# EAGLE library part SC18IM700IPW (library SC18IM700IPW)
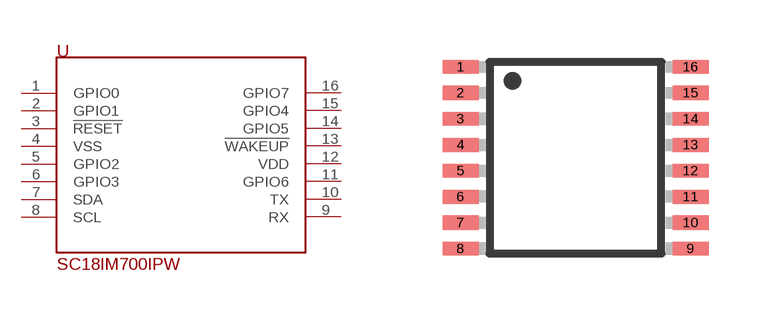
[diagram p0: symbol with the pads of TSSOP16; footprint TSSOP16]

Designator prefix -

## SC18IM700IPWS8HP  [TSSOP16]
1  GPIO0
2  GPIO1
3  !RESET
4  VSS  pwr
5  GPIO2
6  GPIO3
7  SDA
8  SCL
9  RX
10  TX
11  GPIO6
12  VDD  pwr
13  !WAKEUP
14  GPIO5
15  GPIO4
16  GPIO7

## Footprint TSSOP16 (pad centres in mm)
16-Lead Thin Shrink Small Outline Package [TSSOP] (RU-16) Source: 8x ADG1408_1409.pdf
smd 0.9 x 0.35: 1 -2.875,2.275; 2 -2.875,1.625; 3 -2.875,0.975; 4 -2.875,0.325; 5 -2.875,-0.325; 6 -2.875,-0.975; 7 -2.875,-1.625; 8 -2.875,-2.275; 9 2.875,-2.275; 10 2.875,-1.625; 11 2.875,-0.975; 12 2.875,-0.325; 13 2.875,0.325; 14 2.875,0.975; 15 2.875,1.625; 16 2.875,2.275